# EAGLE library part TELIT_RE866 (library clackboard_lib)
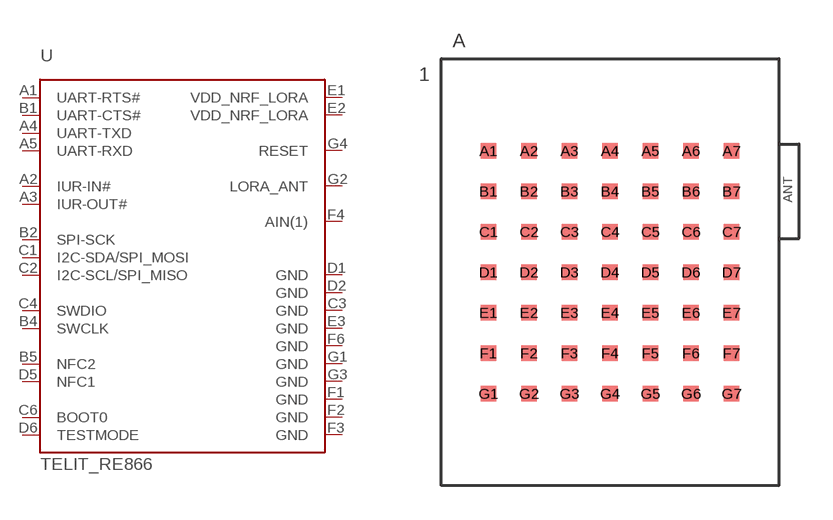
[diagram p7: symbol with the pads of TELIT_RE866; footprint TELIT_RE866]

Designator prefix U

## TELIT_RE866  [TELIT_RE866]
A1  UART-RTS#
A2  IUR-IN#
A3  IUR-OUT#
A4  UART-TXD
A5  UART-RXD
B1  UART-CTS#
B2  SPI-SCK
B4  SWCLK
B5  NFC2
C1  I2C-SDA/SPI_MOSI
C2  I2C-SCL/SPI_MISO
C3  GND
C4  SWDIO
C6  BOOT0
D1  GND
D2  GND
D5  NFC1
D6  TESTMODE
E1  VDD_NRF_LORA
E2  VDD_NRF_LORA
E3  GND
F1  GND
F2  GND
F3  GND
F4  AIN(1)
F6  GND
G1  GND
G2  LORA_ANT
G3  GND
G4  RESET

## Footprint TELIT_RE866 (pad centres in mm)
smd 0.7 x 0.7: A1 -5.4,5.4; A2 -3.6,5.4; A3 -1.8,5.4; A4 0,5.4; A5 1.8,5.4; A6 3.6,5.4; A7 5.4,5.4; B1 -5.4,3.6; B2 -3.6,3.6; B3 -1.8,3.6; B4 0,3.6; B5 1.8,3.6; B6 3.6,3.6; B7 5.4,3.6; C1 -5.4,1.8; C2 -3.6,1.8; C3 -1.8,1.8; C4 0,1.8; C5 1.8,1.8; C6 3.6,1.8; C7 5.4,1.8; D1 -5.4,0; D2 -3.6,0; D3 -1.8,0; D4 0,0; D5 1.8,0; D6 3.6,0; D7 5.4,0; E1 -5.4,-1.8; E2 -3.6,-1.8; E3 -1.8,-1.8; E4 0,-1.8; E5 1.8,-1.8; E6 3.6,-1.8; E7 5.4,-1.8; F1 -5.4,-3.6; F2 -3.6,-3.6; F3 -1.8,-3.6; F4 0,-3.6; F5 1.8,-3.6; F6 3.6,-3.6; F7 5.4,-3.6; G1 -5.4,-5.4; G2 -3.6,-5.4; G3 -1.8,-5.4; G4 0,-5.4; G5 1.8,-5.4; G6 3.6,-5.4; G7 5.4,-5.4